# Altium footprint library DC_XT.PcbLib: 1 footprints
Each footprint in its own frame and in the unit in brackets; x right, y up, seen from the top. Pads: shape width x height; smd on the part's side, far side on the other; paste and mask are expansions set on the pad; w line width, h text height; cw(c..) or ccw(c..) is an arc to the next point about the centre after c.
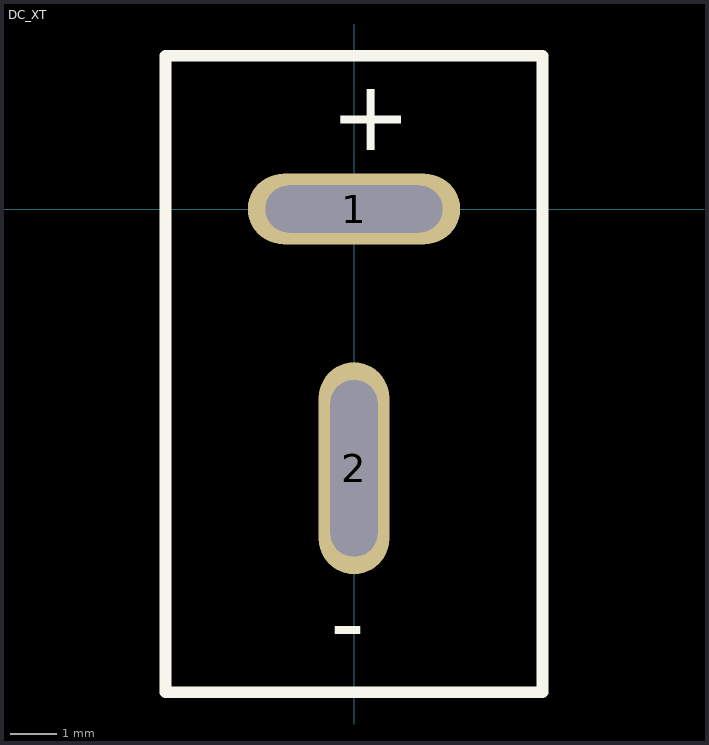
[diagram p0: the footprint, top view; thin cyan lines are the x and y axes]

## DC_XT [mil]
pads (2):
  oval 180x60 hole 40 slot 150 at 0 deg: 1(0,0)
  oval 60x180 hole 150 slot 40 at 0 deg: 2(0,-220)
Top Overlay:
  lines w10: -160,-410 -160,130 0,130 160,130 160,-410 -160,-410
  text "+" at -20,50 h60
  text "-" at -20,-380 h60